# Altium integrated library RSX_Capacitors.IntLib: 11 symbols
Pins are listed as number, name and electrical type; pins without a type are passive.

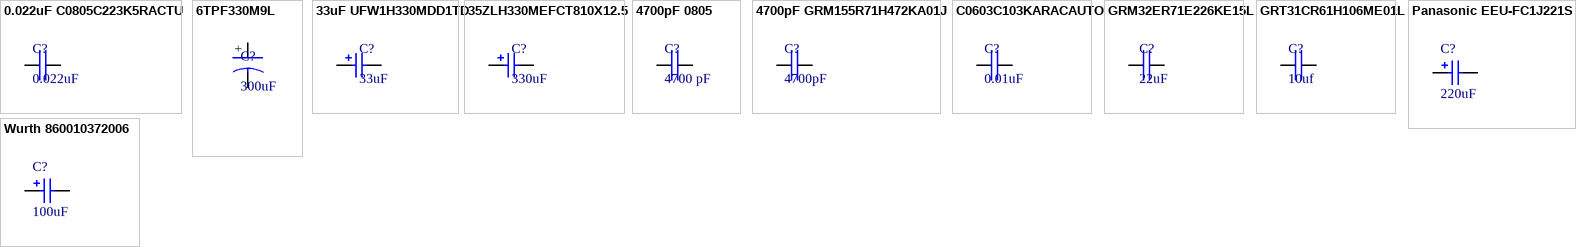
[diagram p0: symbols 0.022uF C0805C223K5RACTU to Wurth 860010372006]

## 0.022uF C0805C223K5RACTU
designator C?, comment 0.022uF
KEMET - C0805C223K5RACTU - CAP, MLCC, X7R, 22NF, 50V, 0805; Dielectric Material: Ceramic; Tolerance: 10%; Supplier 1: Digi-Key; Supplier Part Number 1: 399-1163-1-ND; Manufacturer 1: KEMET; Manufacturer Part Number 1: C0805C223K5RACTU; Stock 1: 516153; Pricing 1: 1=0,10000, 10=0,06000, 100=0,02670, 500=0,01906, 1000=0,01497 (USD); RoHS: Yes; Mount: Surface Mount; Case/Package: 0805; Min Operating Temperature: -55°C; Max Operating Temperature: 125°C; Packaging: Tape and Reel; Capacitance: 22nF; Dielectric: X7R; Voltage Rating (DC): 50V; Voltage: 50V; Length: 2mm; Height: 0.78mm; Depth: 1.25mm; Radiation Hardening: No; ComponentLink1URL: https://datasheet.ciiva.com/18193/getdatasheetpartid-385695-18193669.pdf?src-supplier=Verical; ComponentLink1Description: https://datasheet.ciiva.com/18193/getdatasheetpartid-385695-18193669.pdf?src-supplier=Verical
footprint 0.022uF Ceramic (Chip Capacitor, 2-Leads, Body 2,00x1,25mm, IPC Medium Density)
pins: 1 15, 2 16

## 6TPF330M9L
designator C?, comment 300uF
PANASONIC - 6TPF330M9L - CAP, TANT, POLYMER, 330UF, 6.3V/CASE D3L; Tolerance: 20%; ESR (Equivalent Series Resistance): 9mR; Polarity: Polar; Dissipation Factor: 10%; Voltage Rating: 6.3V; Ripple Current: 3.9A; Leakage Current: 207.9uA; Supplier 1: Digi-Key; Supplier Part Number 1: P16258CT-ND; Manufacturer 1: Panasonic; Manufacturer Part Number 1: 6TPF330M9L; Stock 1: 31667; Pricing 1: 1=2,38000, 10=1,92600, 100=1,47070, 500=1,12056, 1000=1,01551 (USD); RoHS: Yes; Mount: Surface Mount; Case/Package: 2917; Case Code (Metric): 7343; Case Code (Imperial): 2917; Material: Polymer; Min Operating Temperature: -55°C; Max Operating Temperature: 105°C; Capacitance: 330uF; Packaging: Tape and Reel; Package Quantity: 2500; Voltage Rating (DC): 6.3V; Termination: SMD/SMT; Voltage: 6.3V; Features: General Purpose; Length: 7.3mm; Height: 2.8mm; Depth: 4.3mm; Width: 4.3mm; Height - Seated (Max): 0.118inch; Radiation Hardening: No; REACH SVHC: No SVHC; Lead Free: Lead Free; ComponentLink1URL: https://datasheet.ciiva.com/26840/getdatasheetpartid-733767-26840943.pdf?src-supplier=Verical; ComponentLink1Description: https://datasheet.ciiva.com/26840/getdatasheetpartid-733767-26840943.pdf?src-supplier=Verical; ComponentLink2URL: https://datasheet.ciiva.com/48675/aaa8000ce10-48675031.pdf?src-supplier=Avnet; ComponentLink2Description: https://datasheet.ciiva.com/48675/aaa8000ce10-48675031.pdf?src-supplier=Avnet; ComponentLink3URL: https://datasheet.ciiva.com/24450/e100-24450360.pdf?src-supplier=Onlinecomponents.com; ComponentLink3Description: https://datasheet.ciiva.com/24450/e100-24450360.pdf?src-supplier=Onlinecomponents.com; ComponentLink4URL: https://datasheet.ciiva.com/25786/1734364-25786126.pdf?src-supplier=Farnell; ComponentLink4Description: https://datasheet.ciiva.com/25786/1734364-25786126.pdf?src-supplier=Farnell; ComponentLink5URL: https://datasheet.ciiva.com/41442/001179781-da-01-en-tantal-kond-6-3vdc-330uf-9mr-734328-41442556.pdf?src-supplier=Conrad; ComponentLink5Description: https://datasheet.ciiva.com/41442/001179781-da-01-en-tantal-kond-6-3vdc-330uf-9mr-734328-41442556.pdf?src-supplier=Conrad; Category: Capacitor
pins: 14, +

## 33uF UFW1H330MDD1TD
designator C?, comment 33uF
CAP ALUM 33UF 20% 50V RADIAL; Manufacturer 1: Nichicon; Manufacturer Part Number 1: UFW1H330MDD1TD; Ripple Current: 120mA; Life (Hours): 2000Hour; Supplier 1: Digi-Key; Supplier Part Number 1: 493-11010-1-ND; Stock 1: 4144; Pricing 1: 1=0,23000, 10=0,16000, 100=0,09070, 500=0,06404, 1000=0,05603 (USD); RoHS: Yes; Mount: Through Hole; Case/Package: Radial; Min Operating Temperature: -40°C; Max Operating Temperature: 85°C; Package Quantity: 1; Packaging: Tape and Reel; Capacitance: 33uF; Tolerance: 20%; Voltage Rating: 50V; Lead Pitch: 0.079inch; Height - Seated (Max): 0.492inch; ComponentLink1URL: http://nichicon-us.com/english/products/pdfs/e-ufw.pdf?src-supplier=Digi-Key; ComponentLink1Description: http://nichicon-us.com/english/products/pdfs/e-ufw.pdf?src-supplier=Digi-Key; ComponentLink2URL: http://nichicon-us.com/english/products/pdfs/e-mi_tape.pdf?src-supplier=Digi-Key; ComponentLink2Description: http://nichicon-us.com/english/products/pdfs/e-mi_tape.pdf?src-supplier=Digi-Key
footprint 33uF Through hole Radical
pins: 1, 2

## 35ZLH330MEFCT810X12.5
designator C?, comment 330uF
CAP ALUM 330UF 20% 35V RADIAL; Manufacturer 1: Rubycon; Manufacturer Part Number 1: 35ZLH330MEFCT810X12.5; Ripple Current: 731.5mA; Impedance: 39mR; Life (Hours): 10000Hour; Supplier 1: Digi-Key; Supplier Part Number 1: 1189-3752-1-ND; Stock 1: 14330; Pricing 1: 1=0,52000, 10=0,36900, 100=0,24280 (USD); RoHS: Yes; Mount: Through Hole; Case/Package: Radial; Min Operating Temperature: -40°C; Max Operating Temperature: 105°C; Package Quantity: 1000; Capacitance: 330uF; Packaging: Tape and Reel; Tolerance: 20%; Voltage Rating: 35V; Lead Pitch: 0.197inch; Height - Seated (Max): 0.551inch; ComponentLink1URL: http://www.rubycon.co.jp/en/catalog/e_pdfs/aluminum/e_ZLH.pdf?src-supplier=Digi-Key; ComponentLink1Description: http://www.rubycon.co.jp/en/catalog/e_pdfs/aluminum/e_ZLH.pdf?src-supplier=Digi-Key; ComponentLink2URL: http://www.rubycon.co.jp/en/catalog/e_pdfs/aluminum/Radial_Lead_Alumi_Eng.pdf?src-supplier=Digi-Key; ComponentLink2Description: http://www.rubycon.co.jp/en/catalog/e_pdfs/aluminum/Radial_Lead_Alumi_Eng.pdf?src-supplier=Digi-Key
footprint 330uF throught hole
pins: 1, 2

## 4700pF 0805
designator C?, comment 4700 pF
KEMET - C0805C472K5RACTU - CERAMIC CAPACITOR 4700PF, 50V, X7R, 10%, 0805; Capacitance: 4.7nF; Supplier 1: Digi-Key; Supplier Part Number 1: 399-1155-1-ND; Manufacturer 1: KEMET; Manufacturer Part Number 1: C0805C472K5RACTU; Stock 1: 374666; Pricing 1: 1=0,10000, 10=0,06800, 100=0,03040, 500=0,02172, 1000=0,01706 (USD); RoHS: Yes; Mount: Surface Mount; Case/Package: 0805; Number of Pins: 2; Weight: 0.000194oz; Dielectric Material: Ceramic; Contact Plating: Tin,Matte; Case Code (Imperial): 0805; Case Code (Metric): 2012; Min Operating Temperature: -55°C; Max Operating Temperature: 125°C; Tolerance: 10%; Packaging: Tape and Reel; Dielectric: X7R; Voltage Rating (DC): 50V; Package Quantity: 1; Voltage Rating: 50V; Termination: SMD/SMT; Voltage: 50V; Length: 2mm; Height: 0.78mm; Depth: 1.25mm; Width: 0.049inch; Thickness: 0.035inch; Radiation Hardening: No; REACH SVHC: No SVHC; ComponentLink1URL: https://datasheet.ciiva.com/6074/kem-c1002-x7r-smd-6074679.pdf?src-supplier=Farnell; ComponentLink1Description: https://datasheet.ciiva.com/6074/kem-c1002-x7r-smd-6074679.pdf?src-supplier=Farnell; ComponentLink2URL: https://datasheet.ciiva.com/28682/1851736-28682318.pdf?src-supplier=Element14; ComponentLink2Description: https://datasheet.ciiva.com/28682/1851736-28682318.pdf?src-supplier=Element14
footprint 4700uF 0805 (Chip Capacitor, 2-Leads, Body 2,00x1,25mm, IPC Medium Density)
pins: 1 15, 2 16

## 4700pF GRM155R71H472KA01J
designator C?, comment 4700pF
Multilayer Ceramic Capacitors MLCC - SMD/SMT 0.0047uF 50volts 10%; Manufacturer 1: Murata; Manufacturer Part Number 1: GRM155R71H472KA01J; Capacitance: 4.7nF; Voltage Rating: 50V; Dielectric: X7R; Supplier 1: Digi-Key; Supplier Part Number 1: 490-8259-1-ND; Stock 1: 399440; Pricing 1: 1=0,10000, 10=0,03200, 100=0,01430, 500=0,01020, 1000=0,00802, 2500=0,00729, 5000=0,00670 (USD); RoHS: Yes; Mount: Surface Mount; Case/Package: 0402; Case Code (Metric): 1005; Case Code (Imperial): 0402; Min Operating Temperature: -55°C; Max Operating Temperature: 125°C; Packaging: Tape and Reel; Tolerance: 10%; Package Quantity: 1; Voltage Rating (DC): 50V; Termination: SMD/SMT; Length: 1mm; Height: 0.5mm; Width: 0.02inch; Thickness: 0.022inch; Depth: 0.5mm; Radiation Hardening: No; ComponentLink1URL: https://datasheet.ciiva.com/29542/partnumbering-e-01-29542523.pdf?src-supplier=Digi-Key; ComponentLink1Description: https://datasheet.ciiva.com/29542/partnumbering-e-01-29542523.pdf?src-supplier=Digi-Key; ComponentLink2URL: https://datasheet.ciiva.com/29542/partnumbering-e-01-29542524.pdf?src-supplier=Digi-Key; ComponentLink2Description: https://datasheet.ciiva.com/29542/partnumbering-e-01-29542524.pdf?src-supplier=Digi-Key; ComponentLink3URL: https://datasheet.ciiva.com/29542/partnumbering-e-01-29542525.pdf?src-supplier=Digi-Key; ComponentLink3Description: https://datasheet.ciiva.com/29542/partnumbering-e-01-29542525.pdf?src-supplier=Digi-Key
footprint 4700pF Ceramic (Chip Capacitor, 2-Leads, Body 1,00x0,50mm, IPC Medium Density)
pins: 1 15, 2 16

## C0603C103KARACAUTO
designator C?, comment 0.01uF
Cap Ceramic 0.01uF 250V X7R 10% Pad SMD 0603 125C Automotive T/R; Manufacturer 1: KEMET; Manufacturer Part Number 1: C0603C103KARACAUTO; Capacitance: 10nF; Supplier 1: Digi-Key; Supplier Part Number 1: 399-17960-1-ND; Stock 1: 8483; Pricing 1: 1=0,90000, 10=0,68500, 100=0,49040, 500=0,37964, 1000=0,32691 (USD); RoHS: No; Mount: Surface Mount; Case/Package: 0603; Case Code (Imperial): 0603; Case Code (Metric): 1608; Min Operating Temperature: -55°C; Max Operating Temperature: 125°C; Packaging: Tape and Reel; Tolerance: 10%; Voltage Rating: 250V; Ratings: AEC-Q200; ComponentLink1URL: https://api.kemet.com/component-edge/download/datasheet/C0603C103KARACAUTO.pdf?src-supplier=Digi-Key; ComponentLink1Description: https://api.kemet.com/component-edge/download/datasheet/C0603C103KARACAUTO.pdf?src-supplier=Digi-Key; Category: Capacitor
footprint 0.01uF capacitor (Chip Capacitor, 2-Leads, Body 1,60x0,80mm, IPC Medium Density)
pins: 1 15, 2 16

## GRM32ER71E226KE15L
designator C?, comment 22uF
Cap Ceramic 22uF 25V X7R 10% SMD 1210 125C Embossed T/R; Manufacturer 1: Murata; Manufacturer Part Number 1: GRM32ER71E226KE15L; Supplier 1: Digi-Key; Supplier Part Number 1: 490-5313-6-ND; Stock 1: 52660; Pricing 1: 1=1,78000, 10=1,40600, 100=1,05410, 500=0,79646 (USD); RoHS: Yes; Mount: Surface Mount; Case/Package: 1210; Number of Pins: 2; Case Code (Metric): 3225; Case Code (Imperial): 1210; Material: Ceramic; Min Operating Temperature: -55°C; Max Operating Temperature: 125°C; Capacitance: 22uF; Tolerance: 10%; Dielectric: X7R; Voltage Rating: 25V; Packaging: Tape and Reel; Package Quantity: 1; Voltage Rating (DC): 25V; Termination: SMD/SMT; Voltage: 25V; Length: 3.2mm; Height: 2.5mm; Width: 0.098inch; Thickness: 0.106inch; Depth: 2.5mm; Radiation Hardening: No; REACH SVHC: No SVHC; Lead Free: Lead Free; ComponentLink1URL: https://datasheet.ciiva.com/6072/1697714-6072768.pdf?src-supplier=Farnell; ComponentLink1Description: https://datasheet.ciiva.com/6072/1697714-6072768.pdf?src-supplier=Farnell; ComponentLink2URL: https://datasheet.ciiva.com/16497/product-16497009.pdf?src-supplier=Future+Electronics; ComponentLink2Description: https://datasheet.ciiva.com/16497/product-16497009.pdf?src-supplier=Future+Electronics; ComponentLink3URL: https://datasheet.ciiva.com/3776/2741grm32er71e226ke1523-3776996.pdf?src-supplier=Arrow; ComponentLink3Description: https://datasheet.ciiva.com/3776/2741grm32er71e226ke1523-3776996.pdf?src-supplier=Arrow; ComponentLink4URL: https://datasheet.ciiva.com/11789/0900766b80ef921d-11789129.pdf?src-supplier=RSComponents; ComponentLink4Description: https://datasheet.ciiva.com/11789/0900766b80ef921d-11789129.pdf?src-supplier=RSComponents; ComponentLink5URL: https://datasheet.ciiva.com/29201/451826-da-01-de-vs-kondens-grm32-er71e-226ke15l-29201795.pdf?src-supplier=Conrad; ComponentLink5Description: https://datasheet.ciiva.com/29201/451826-da-01-de-vs-kondens-grm32-er71e-226ke15l-29201795.pdf?src-supplier=Conrad; ComponentLink6URL: https://datasheet.ciiva.com/175/partnumbering-e-01-175746.pdf?src-supplier=Digi-Key; ComponentLink6Description: https://datasheet.ciiva.com/175/partnumbering-e-01-175746.pdf?src-supplier=Digi-Key; ComponentLink7URL: https://datasheet.ciiva.com/175/partnumbering-e-01-175747.pdf?src-supplier=Digi-Key; ComponentLink7Description: https://datasheet.ciiva.com/175/partnumbering-e-01-175747.pdf?src-supplier=Digi-Key; ComponentLink8URL: https://datasheet.ciiva.com/175/partnumbering-e-01-175748.pdf?src-supplier=Digi-Key; ComponentLink8Description: https://datasheet.ciiva.com/175/partnumbering-e-01-175748.pdf?src-supplier=Digi-Key; ComponentLink9URL: https://datasheet.ciiva.com/22703/1697714-22703397.pdf?src-supplier=Element14; ComponentLink9Description: https://datasheet.ciiva.com/22703/1697714-22703397.pdf?src-supplier=Element14; Category: Capacitor
footprint 22uF Capacitor (Chip Capacitor, 2-Leads, Body 3,20x2,50mm, IPC Medium Density)
pins: 1 15, 2 16

## GRT31CR61H106ME01L
designator C?, comment 10uf
CAP CER 10UF 50V X5R 1206; Manufacturer 1: Murata; Manufacturer Part Number 1: GRT31CR61H106ME01L; Tolerance: 20%; Supplier 1: Digi-Key; Supplier Part Number 1: 490-12457-1-ND; Stock 1: 8159; Pricing 1: 1=0,50000, 10=0,34900, 100=0,20920, 500=0,15690, 1000=0,13249 (USD); RoHS: Yes; Mount: Surface Mount; Case/Package: 1206; Case Code (Metric): 3216; Case Code (Imperial): 1206; Min Operating Temperature: -55°C; Max Operating Temperature: 85°C; Packaging: Tape and Reel; Capacitance: 10uF; Voltage Rating: 50V; Length: 0.126inch; Width: 0.063inch; Thickness: 0.071inch; Ratings: AEC-Q200; ComponentLink1URL: http://search.murata.co.jp/Ceramy/image/img/A01X/G101/ENG/GRT31CR61H106ME01-01.pdf?src-supplier=Digi-Key; ComponentLink1Description: http://search.murata.co.jp/Ceramy/image/img/A01X/G101/ENG/GRT31CR61H106ME01-01.pdf?src-supplier=Digi-Key; Category: Capacitor
footprint 10uF capacitor LPB (Chip Capacitor, 2-Leads, Body 3,20x1,60mm, IPC Medium Density)
pins: 1 15, 2 16

## Panasonic EEU-FC1J221S
designator C?  value 220uF
Polarized Capacitor (Radial)
footprint Panasonic EEU-FC1J221S (Aluminum Electrolytic Capacitors - Radial Leaded 220uF 63V)
pins: 1, 2
1 alternate drawing of the same symbol

## Wurth 860010372006
designator C?  value 100uF
Polarized Capacitor (Radial)
footprint Wurth 860010372006 (Aluminum Electrolytic Capacitors - Radial Leaded WCAP-ATG8 100uF 16V 20% Radial)
pins: 1, 2
1 alternate drawing of the same symbol